# Altium footprint library ESP32P4C5模组封装.PcbLib: 2 footprints
Each footprint in its own frame and in the unit in brackets; x right, y up, seen from the top. Pads: shape width x height; smd on the part's side, far side on the other; paste and mask are expansions set on the pad; w line width, h text height; cw(c..) or ccw(c..) is an arc to the next point about the centre after c.
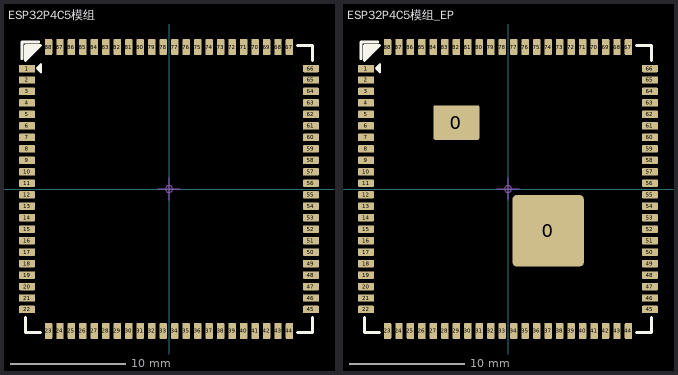
[diagram p0: the footprints below, top view; thin cyan lines are the x and y axes]

## ESP32P4C5模组 [mm] "25*25MM无散热焊盘"
height 1.1
pads (88):
  rect 1.4x0.65 smd mask+0.051: 1(-12.373,10.5)
  rrect25% 1.4x0.65 smd mask+0.051: 2(-12.373,9.5) 3(-12.373,8.5) 4(-12.373,7.5) 5(-12.373,6.5) 6(-12.373,5.5) 7(-12.373,4.5) 8(-12.373,3.5) 9(-12.373,2.5) 10(-12.373,1.5) 11(-12.373,0.5) 12(-12.373,-0.5) 13(-12.373,-1.5) 14(-12.373,-2.5) 15(-12.373,-3.5) 16(-12.373,-4.5) 17(-12.373,-5.5) 18(-12.373,-6.5) 19(-12.373,-7.5) 20(-12.373,-8.5) 21(-12.373,-9.5) 22(-12.373,-10.5) 45(12.373,-10.5) 46(12.373,-9.5) 47(12.373,-8.5) 48(12.373,-7.5) 49(12.373,-6.5) 50(12.373,-5.5) 51(12.373,-4.5) 52(12.373,-3.5) 53(12.373,-2.5) 54(12.373,-1.5) 55(12.373,-0.5) 56(12.373,0.5) 57(12.373,1.5) 58(12.373,2.5) 59(12.373,3.5) 60(12.373,4.5) 61(12.373,5.5) 62(12.373,6.5) 63(12.373,7.5) 64(12.373,8.5) 65(12.373,9.5) 66(12.373,10.5)
  rrect25% 0.65x1.4 smd mask+0.051: 23(-10.5,-12.373) 24(-9.5,-12.373) 25(-8.5,-12.373) 26(-7.5,-12.373) 27(-6.5,-12.373) 28(-5.5,-12.373) 29(-4.5,-12.373) 30(-3.5,-12.373) 31(-2.5,-12.373) 32(-1.5,-12.373) 33(-0.5,-12.373) 34(0.5,-12.373) 35(1.5,-12.373) 36(2.5,-12.373) 37(3.5,-12.373) 38(4.5,-12.373) 39(5.5,-12.373) 40(6.5,-12.373) 41(7.5,-12.373) 42(8.5,-12.373) 43(9.5,-12.373) 44(10.5,-12.373) 67(10.5,12.373) 68(9.5,12.373) 69(8.5,12.373) 70(7.5,12.373) 71(6.5,12.373) 72(5.5,12.373) 73(4.5,12.373) 74(3.5,12.373) 75(2.5,12.373) 76(1.5,12.373) 77(0.5,12.373) 78(-0.5,12.373) 79(-1.5,12.373) 80(-2.5,12.373) 81(-3.5,12.373) 82(-4.5,12.373) 83(-5.5,12.373) 84(-6.5,12.373) 85(-7.5,12.373) 86(-8.5,12.373) 87(-9.5,12.373) 88(-10.5,12.373)
Top Overlay:
  region: -11.505,10.525 -11.124,10.906 -11.124,10.144
  region: -12.5,11.2 -12.5,12.5 -11.2,12.5
  lines w0.127: -11.505,10.525 -11.124,10.144 -11.124,10.906 -11.505,10.525
  lines w0.254: -12.802,11.351 -12.802,12.802 -11.351,12.802 ; -12.5,-11.2 -12.5,-12.5 -11.2,-12.5 ; 11.2,-12.5 12.5,-12.5 12.5,-11.2 ; 11.2,12.5 12.5,12.5 12.5,11.2 ; -12.5,11.2 -12.5,12.5 -11.2,12.5 -12.5,11.2
Mechanical 15:
  circle w0.05: c0,0 r0.3
  lines w0.05: -1,0 1,0 ; 0,-1 0,1
3D body "ESP32P4模组V1.2 v1.step": height 3.25, standoff 0.03, extent -12.505,-12.505 12.505,12.505

## ESP32P4C5模组_EP [mm] "25*25MM带散热焊盘"
height 1.1
pads (90):
  rrect10% 4x3 smd paste-2539.97 mask+0.051: 0(-4.491,5.788)
  rrect10% 6.2x6.2 smd paste-2539.97 mask+0.051: 0(3.502,-3.642)
  rect 1.4x0.65 smd mask+0.051: 1(-12.373,10.5)
  rrect25% 1.4x0.65 smd mask+0.051: 2(-12.373,9.5) 3(-12.373,8.5) 4(-12.373,7.5) 5(-12.373,6.5) 6(-12.373,5.5) 7(-12.373,4.5) 8(-12.373,3.5) 9(-12.373,2.5) 10(-12.373,1.5) 11(-12.373,0.5) 12(-12.373,-0.5) 13(-12.373,-1.5) 14(-12.373,-2.5) 15(-12.373,-3.5) 16(-12.373,-4.5) 17(-12.373,-5.5) 18(-12.373,-6.5) 19(-12.373,-7.5) 20(-12.373,-8.5) 21(-12.373,-9.5) 22(-12.373,-10.5) 45(12.373,-10.5) 46(12.373,-9.5) 47(12.373,-8.5) 48(12.373,-7.5) 49(12.373,-6.5) 50(12.373,-5.5) 51(12.373,-4.5) 52(12.373,-3.5) 53(12.373,-2.5) 54(12.373,-1.5) 55(12.373,-0.5) 56(12.373,0.5) 57(12.373,1.5) 58(12.373,2.5) 59(12.373,3.5) 60(12.373,4.5) 61(12.373,5.5) 62(12.373,6.5) 63(12.373,7.5) 64(12.373,8.5) 65(12.373,9.5) 66(12.373,10.5)
  rrect25% 0.65x1.4 smd mask+0.051: 23(-10.5,-12.373) 24(-9.5,-12.373) 25(-8.5,-12.373) 26(-7.5,-12.373) 27(-6.5,-12.373) 28(-5.5,-12.373) 29(-4.5,-12.373) 30(-3.5,-12.373) 31(-2.5,-12.373) 32(-1.5,-12.373) 33(-0.5,-12.373) 34(0.5,-12.373) 35(1.5,-12.373) 36(2.5,-12.373) 37(3.5,-12.373) 38(4.5,-12.373) 39(5.5,-12.373) 40(6.5,-12.373) 41(7.5,-12.373) 42(8.5,-12.373) 43(9.5,-12.373) 44(10.5,-12.373) 67(10.5,12.373) 68(9.5,12.373) 69(8.5,12.373) 70(7.5,12.373) 71(6.5,12.373) 72(5.5,12.373) 73(4.5,12.373) 74(3.5,12.373) 75(2.5,12.373) 76(1.5,12.373) 77(0.5,12.373) 78(-0.5,12.373) 79(-1.5,12.373) 80(-2.5,12.373) 81(-3.5,12.373) 82(-4.5,12.373) 83(-5.5,12.373) 84(-6.5,12.373) 85(-7.5,12.373) 86(-8.5,12.373) 87(-9.5,12.373) 88(-10.5,12.373)
Top Overlay:
  region: -12.5,11.2 -12.5,12.5 -11.2,12.5
  region: -11.505,10.525 -11.124,10.906 -11.124,10.144
  lines w0.127: -11.505,10.525 -11.124,10.906 -11.124,10.144 -11.505,10.525
  lines w0.254: -12.802,11.351 -12.802,12.802 -11.351,12.802 ; -12.5,-11.2 -12.5,-12.5 -11.2,-12.5 ; 11.2,-12.5 12.5,-12.5 12.5,-11.2 ; 11.2,12.5 12.5,12.5 12.5,11.2 ; -12.5,11.2 -11.2,12.5 -12.5,12.5 -12.5,11.2
Top Paste:
  drawing of 140 lines, arcs and shapes, not listed
Mechanical 15:
  circle w0.05: c0,0 r0.3
  lines w0.05: -1,0 1,0 ; 0,-1 0,1
3D body "ESP32P4模组V1.2 v1.step": height 3.25, standoff 0.03, extent -12.505,-12.505 12.505,12.505